# Altium footprint library Face_HM1V0.PcbLib: 16 footprints
Each footprint in its own frame and in the unit in brackets; x right, y up, seen from the top. Pads: shape width x height; smd on the part's side, far side on the other; paste and mask are expansions set on the pad; w line width, h text height; cw(c..) or ccw(c..) is an arc to the next point about the centre after c.
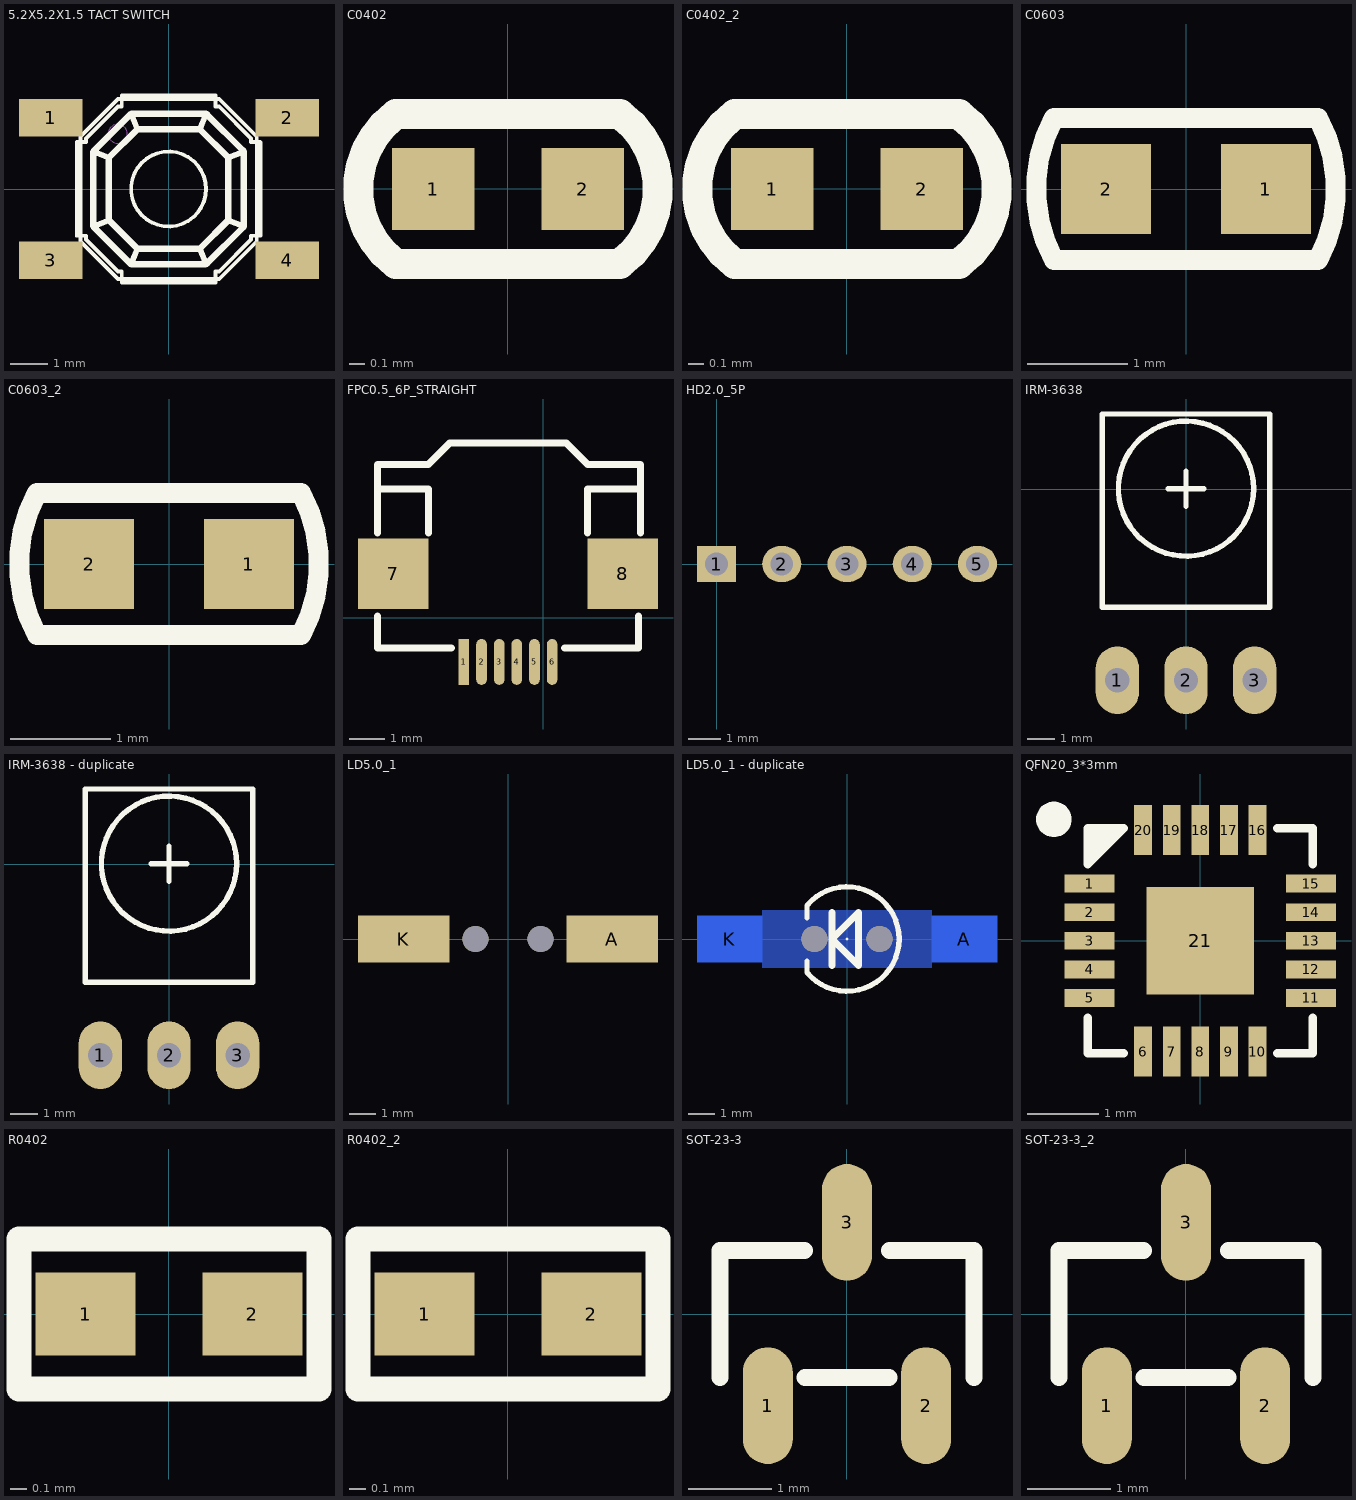
[diagram p0: the footprints below, top view; thin cyan lines are the x and y axes]

## 5.2X5.2X1.5 TACT SWITCH [mm]
pads (4):
  rect 1.7x1 smd: 1(-3.15,1.9) 2(3.15,1.9) 3(-3.15,-1.9) 4(3.15,-1.9)
Top Overlay:
  drawing of 1937 lines, arcs and shapes, not listed
Mechanical 10:
  circle w0.013: c-1.368,1.475 r0.254
3D body "c-8-1437565-0-j-3d.stp": height 1.5, standoff 0, extent -3.301,-2.503 3.299,2.497

## C0402 [mm] "Chip Capacitor, Body 1.0x0.5mm, IPC High Density"
height 1.3
pads (2):
  rect 0.55x0.55 smd: 1(-0.5,0) 2(0.5,0)
Top Overlay:
  lines w0.2: -0.75,-0.5 cw(c-0.38,0) -0.75,0.5 0.75,0.5 cw(c0.381,0) 0.75,-0.5 -0.75,-0.5
3D body "SW3dPS-0402 SMD Capacitor.STEP": height 0.2, standoff 0, extent -0.5,-0.3 0.5,0.3

## C0402_2 [mm]
pads (2):
  rect 0.55x0.55 smd: 1(-0.5,0) 2(0.5,0)
Top Overlay:
  lines w0.2: -0.75,-0.5 cw(c-0.38,0) -0.75,0.5 0.75,0.5 cw(c0.381,0) 0.75,-0.5 -0.75,-0.5
3D body "SW3dPS-0402 SMD Capacitor.STEP": height 0.2, standoff 0, extent -0.5,-0.3 0.5,0.3

## C0603 [mm]
pads (2):
  rect 0.9x0.9 smd: 1(0.8,0) 2(-0.8,0)
Top Overlay:
  lines w0.2: -1.321,0.71 ccw(c0,0) -1.321,-0.711 1.321,-0.711 ; -1.321,0.711 1.321,0.711 cw(c0,0) 1.321,-0.71
3D body "SW3dPS-0603 SMD Capacitor.STEP": height 0.3, standoff 0, extent -0.8,-0.4 0.8,0.4

## C0603_2 [mm]
pads (2):
  rect 0.9x0.9 smd: 1(0.8,0) 2(-0.8,0)
Top Overlay:
  lines w0.2: -1.321,0.71 ccw(c0,0) -1.321,-0.711 1.321,-0.711 ; -1.321,0.711 1.321,0.711 cw(c0,0) 1.321,-0.71
3D body "SW3dPS-0603 SMD Capacitor.STEP": height 0.3, standoff 0, extent -0.8,-0.4 0.8,0.4

## FPC0.5_6P_STRAIGHT [mm]
pads (8):
  rect 0.3x1.3 smd: 1(-2.25,-1.25)
  oval 0.3x1.3 smd: 2(-1.75,-1.25) 3(-1.25,-1.25) 4(-0.75,-1.25) 5(-0.25,-1.25) 6(0.25,-1.25)
  rect 2x2 smd: 7(-4.25,1.25) 8(2.25,1.25)
Top Overlay:
  lines w0.2: -4.7,0.05 -4.7,-0.85 -2.6,-0.85 ; -4.7,2.4 -4.7,3.65 ; -3.25,2.4 -3.25,3.65 -4.7,3.65 ; 0.6,-0.85 2.7,-0.85 2.7,0.05 ; 0.635,4.95 -2.65,4.95 -3.25,4.35 -4.7,4.35 -4.7,3.65 ; 0.65,4.95 1.25,4.35 2.75,4.35 2.75,3.65 ; 1.25,2.4 1.25,3.65 2.75,3.65 ; 2.75,2.4 2.75,3.65

## HD2.0_5P [mm]
height 6.1
pads (5):
  rect 1.2x1.1 hole 0.7: 1(0,0)
  oval 1.2x1.1 hole 0.7: 2(2,0) 3(4,0) 4(6,0) 5(8,0)

## IRM-3638 [mm]
pads (3):
  oval 1.6x2.5 hole 0.9: 1(-2.54,-7.075) 2(0,-7.075) 3(2.54,-7.075)
Top Overlay:
  circle w0.2: c0,0.015 r2.5
  lines w0.2: -0.65,0.015 0.65,0.015 ; 0,-0.635 0,0.665 ; -3.1,-4.375 3.1,-4.375 3.1,2.775 -3.1,2.775 -3.1,-4.375
3D body: height 0.25, standoff 0, extent 0,2.525 0,2.525
3D body: height 0.25, standoff 0, extent 4.2,-5.125 4.2,-5.125
3D body "everlight-irm-3638f4.SLDPRT": height 6.16, standoff -1.7, extent -3.048,-7.336 2.952,2.764

## IRM-3638 - duplicate [mm]
pads (3):
  oval 1.6x2.5 hole 0.9: 1(-2.54,-7.075) 2(0,-7.075) 3(2.54,-7.075)
Top Overlay:
  circle w0.2: c0,0.015 r2.5
  lines w0.2: -0.65,0.015 0.65,0.015 ; 0,-0.635 0,0.665 ; -3.1,-4.375 -3.1,2.775 3.1,2.775 3.1,-4.375 -3.1,-4.375
3D body: height 0.25, standoff 0, extent 4.2,-5.125 4.2,-5.125
3D body: height 0.25, standoff 0, extent 0,2.525 0,2.525
3D body "everlight-irm-3638f4.STEP": height 6.16, standoff -1.7, extent -3,-7.475 3,2.375

## LD5.0_1 [mm]
height 6.1
pads (5):
  round 0.1 on Bottom Overlay: 5(0,0)
  rect 3.5x1.8 smd paste+0 mask+0: A(4,0) K(-4,0)
  round 1 hole 1 unplated: ""(-1.25,0) ""(1.25,0)
Bottom Overlay:
  lines w0.2: -1.532,-0.8 -1.532,-1.286 ccw(c0,0) -1.532,1.286 -1.532,0.85
  lines w0.254: -0.574,-1.016 -0.574,1.016 ; 0.442,-1.016 -0.574,0 0.442,1.016 0.442,-0.984
3D body "User Library-LED 3MM ambar.STEP": height 5.6, standoff -2, extent -1.5,-1.999 2,2

## LD5.0_1 - duplicate [mm]
height 6.1
pads (5):
  round 0.1 on Top Overlay: 5(0,0)
  rect 2.5x1.8 smd far side paste+0 mask+0: A(4.5,0) K(-4.5,0)
  round 1 hole 1 unplated: ""(-1.25,0) ""(1.25,0)
Bottom Layer:
  pour cut-out: -3.25,1.1 -3.25,-1.1 3.25,-1.1 3.25,1.1
Top Overlay:
  lines w0.2: -1.532,-0.85 -1.532,-1.286 ccw(c0,0) -1.532,1.286 -1.532,0.8
  lines w0.254: -0.574,-1.016 -0.574,1.016 ; 0.442,0.984 0.442,-1.016 -0.574,0 0.442,1.016
3D body "User Library-LED 3MM ambar.STEP": height 5.6, standoff -2, extent -1.5,-2 2,1.999

## QFN20_3*3mm [mm]
height 6.1
pads (22):
  rect 0.7x0.25 smd mask+0.05: 1(-1.55,0.8) 2(-1.55,0.4) 3(-1.55,0) 4(-1.55,-0.4) 5(-1.55,-0.8) 11(1.55,-0.8) 12(1.55,-0.4) 13(1.55,0) 14(1.55,0.4) 15(1.55,0.8)
  rect 0.25x0.7 smd mask+0.05: 6(-0.8,-1.55) 7(-0.4,-1.55) 8(0,-1.55) 9(0.4,-1.55) 10(0.8,-1.55) 16(0.8,1.55) 17(0.4,1.55) 18(0,1.55) 19(-0.4,1.55) 20(-0.8,1.55)
  rect 1.5x1.5 smd mask+0.05: 21(0,0)
  round 0.5 on Top Overlay: ""(-2.05,1.7)
Top Overlay:
  lines w0.12: -1.575,-1.075 -1.575,-1.575 -1.075,-1.575 ; -1.375,1.575 -1.55,1.4 -1.55,1.25 -1.225,1.575 -1.075,1.575 ; 1.075,-1.575 1.575,-1.575 1.575,-1.075 ; 1.075,1.575 1.575,1.575 1.575,1.075 ; -1.075,1.575 -1.575,1.575 -1.575,1.075 -1.075,1.575
3D body "User Library-QFN-20-2.STEP": height 0.75, standoff 0, extent -1.51,-1.51 1.51,1.51

## R0402 [mm] "Chip Resistor, Body 1.0x0.5mm, IPC High Density"
height 1.3
pads (2):
  rect 0.6x0.5 smd: 1(-0.5,0) 2(0.5,0)
Top Overlay:
  lines w0.15: -0.9,-0.45 -0.9,0.45 0.9,0.45 0.9,-0.45 -0.9,-0.45
3D body "User Library-R_0402.STEP": height 0.35, standoff 0, extent -0.5,-0.25 0.5,0.25

## R0402_2 [mm]
pads (2):
  rect 0.6x0.5 smd: 1(-0.5,0) 2(0.5,0)
Top Overlay:
  lines w0.15: -0.9,-0.45 -0.9,0.45 0.9,0.45 0.9,-0.45 -0.9,-0.45
3D body "User Library-R_0402.STEP": height 0.35, standoff 0, extent -0.5,-0.25 0.5,0.25

## SOT-23-3 [mm]
pads (3):
  oval 0.6x1.4 smd mask+0.05: 1(-0.95,-1.1) 2(0.95,-1.1) 3(0,1.1)
Top Overlay:
  lines w0.2: -1.524,-0.762 -1.524,0.762 -0.508,0.762 ; -0.508,-0.762 0.508,-0.762 ; 0.508,0.762 1.524,0.762 1.524,-0.762
3D body "User Library-SOT23-3.STEP": height 1.3, standoff 0, extent -1.44,-1.44 1.46,1.36

## SOT-23-3_2 [mm]
pads (3):
  oval 0.6x1.4 smd mask+0.05: 1(-0.95,-1.1) 2(0.95,-1.1) 3(0,1.1)
Top Overlay:
  lines w0.2: -1.524,-0.762 -1.524,0.762 -0.508,0.762 ; -0.508,-0.762 0.508,-0.762 ; 0.508,0.762 1.524,0.762 1.524,-0.762
3D body "User Library-SOT23-3.STEP": height 1.3, standoff 0, extent -1.44,-1.44 1.46,1.36